# Altium integrated library D-SUB-Filter Bent 90.IntLib: 16 symbols
Pins are listed as number, name and electrical type; pins without a type are passive.

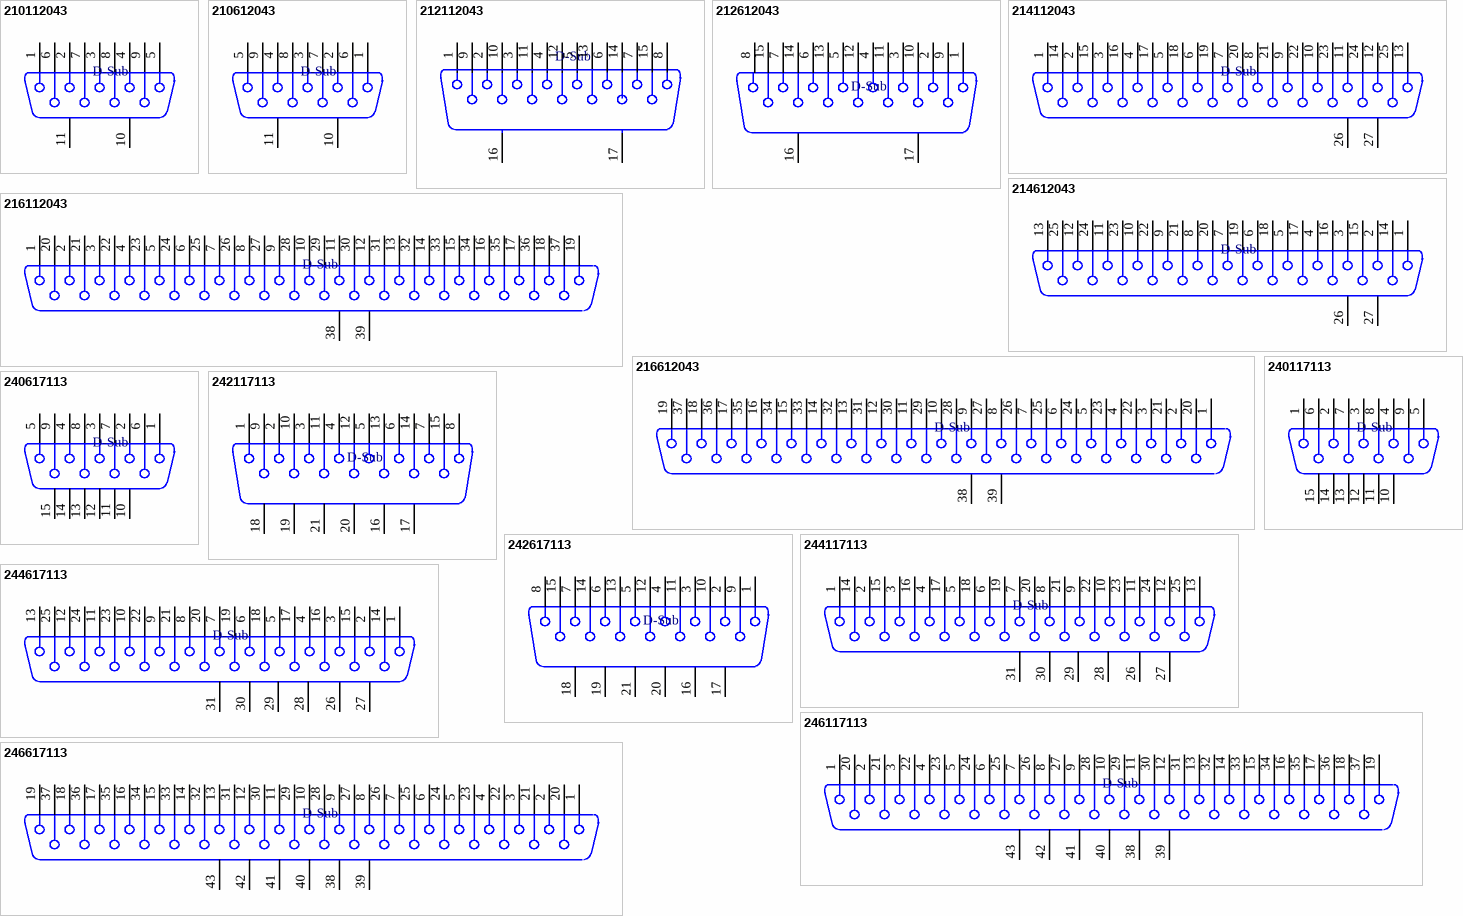
[diagram p0: symbols 210112043 to 246617113]

## 210112043
designator D-Sub
D-SUB-Filter Connectors WE-DS, Bent 90°,TH; PartNumber: 210112043; PackageReference: WE-DS, 210112043; ComponentLink1Description: Manufacturer URL; ComponentLink1URL: http://www.we-online.com; ComponentLink2Description: Datasheet; ComponentLink2URL: http://katalog.we-online.de/kataloge/eisos/index.php?language=en&pf=Filter_abgewinkelt
footprint WE-DS, 210112043 (D-SUB- 9P, MALE, RT ANGLE, TH)
pins: 1, 2, 3, 4, 5, 6, 7, 8, 9, 10 MH1, 11 MH2

## 210612043
designator D-Sub
D-SUB-Filter Connectors WE-DS, Bent 90°,TH; PartNumber: 210612043; PackageReference: WE-DS, 210612043; ComponentLink1Description: Manufacturer URL; ComponentLink1URL: http://www.we-online.com; ComponentLink2Description: Datasheet; ComponentLink2URL: http://katalog.we-online.de/kataloge/eisos/index.php?language=en&pf=Filter_abgewinkelt
footprint WE-DS, 210612043 (D-SUB- 9P, FEMALE, RT ANGLE, TH)
pins: 1, 2, 3, 4, 5, 6, 7, 8, 9, 10 MH1, 11 MH2

## 212112043
designator D-Sub
D-SUB-Filter Connectors WE-DS, Bent 90°,TH; PartNumber: 212112043; PackageReference: WE-DS, 212112043; ComponentLink1Description: Manufacturer URL; ComponentLink1URL: http://www.we-online.com; ComponentLink2Description: Datasheet; ComponentLink2URL: http://katalog.we-online.de/kataloge/eisos/index.php?language=en&pf=Filter_abgewinkelt
footprint WE-DS, 212112043 (D-SUB- 15P, MALE, RT ANGLE, TH)
pins: 1, 2, 3, 4, 5, 6, 7, 8, 9, 10, 11, 12, 13, 14, 15, 16 MH1, 17 MH2

## 212612043
designator D-Sub
D-SUB-Filter Connectors WE-DS, Bent 90°,TH; PartNumber: 212612043; PackageReference: WE-DS, 212612043; ComponentLink1Description: Manufacturer URL; ComponentLink1URL: http://www.we-online.com; ComponentLink2Description: Datasheet; ComponentLink2URL: http://katalog.we-online.de/kataloge/eisos/index.php?language=en&pf=Filter_abgewinkelt
footprint WE-DS, 212612043 (D-SUB- 15P, FEMALE, RT ANGLE, TH)
pins: 1, 2, 3, 4, 5, 6, 7, 8, 9, 10, 11, 12, 13, 14, 15, 16 MH1, 17 MH2

## 214112043
designator D-Sub
D-SUB-Filter Connectors WE-DS, Bent 90°,TH; PartNumber: 214112043; PackageReference: WE-DS, 214112043; ComponentLink1Description: Manufacturer URL; ComponentLink1URL: http://www.we-online.com; ComponentLink2Description: Datasheet; ComponentLink2URL: http://katalog.we-online.de/kataloge/eisos/index.php?language=en&pf=Filter_abgewinkelt
footprint WE-DS, 214112043 (D-SUB- 25P, MALE, RT ANGLE, TH)
pins: 1, 2, 3, 4, 5, 6, 7, 8, 9, 10, 11, 12, 13, 14, 15, 16, 17, 18, 19, 20, 21, 22, 23, 24, 25, 26 MH1, 27 MH2

## 214612043
designator D-Sub
D-SUB-Filter Connectors WE-DS, Bent 90°,TH; PartNumber: 214612043; PackageReference: WE-DS, 214612043; ComponentLink1Description: Manufacturer URL; ComponentLink1URL: http://www.we-online.com; ComponentLink2Description: Datasheet; ComponentLink2URL: http://katalog.we-online.de/kataloge/eisos/index.php?language=en&pf=Filter_abgewinkelt
footprint WE-DS, 214612043 (D-SUB- 25P, FEMALE, RT ANGLE, TH)
pins: 1, 2, 3, 4, 5, 6, 7, 8, 9, 10, 11, 12, 13, 14, 15, 16, 17, 18, 19, 20, 21, 22, 23, 24, 25, 26 MH1, 27 MH2

## 216112043
designator D-Sub
D-SUB-Filter Connectors WE-DS, Bent 90°,TH; PartNumber: 216112043; PackageReference: WE-DS, 216112043; ComponentLink1Description: Manufacturer URL; ComponentLink1URL: http://www.we-online.com; ComponentLink2Description: Datasheet; ComponentLink2URL: http://katalog.we-online.de/kataloge/eisos/index.php?language=en&pf=Filter_abgewinkelt
footprint WE-DS, 216112043 (D-SUB- 37P, MALE, RT ANGLE, TH)
pins: 1, 2, 3, 4, 5, 6, 7, 8, 9, 10, 11, 12, 13, 14, 15, 16, 17, 18, 19, 20, 21, 22, 23, 24, 25, 26, 27, 28, 29, 30, 31, 32, 33, 34, 35, 36, 37, 38 MH1, 39 MH2

## 216612043
designator D-Sub
D-SUB-Filter Connectors WE-DS, Bent 90°,TH; PartNumber: 216612043; PackageReference: WE-DS, 216612043; ComponentLink1Description: Manufacturer URL; ComponentLink1URL: http://www.we-online.com; ComponentLink2Description: Datasheet; ComponentLink2URL: http://katalog.we-online.de/kataloge/eisos/index.php?language=en&pf=Filter_abgewinkelt
footprint WE-DS, 216612043 (D-SUB- 37P, FEMALE, RT ANGLE, TH)
pins: 1, 2, 3, 4, 5, 6, 7, 8, 9, 10, 11, 12, 13, 14, 15, 16, 17, 18, 19, 20, 21, 22, 23, 24, 25, 26, 27, 28, 29, 30, 31, 32, 33, 34, 35, 36, 37, 38 MH1, 39 MH2

## 240117113
designator D-Sub
D-SUB-Filter Connectors WE-DS, Bent 90°,SMT; PartNumber: 240117113; PackageReference: WE-DS, 240117113; ComponentLink1Description: Manufacturer URL; ComponentLink1URL: http://www.we-online.com; ComponentLink2Description: Datasheet; ComponentLink2URL: http://katalog.we-online.de/kataloge/eisos/index.php?language=en&pf=Filter_SMD
footprint WE-DS, 240117113 (D-SUB- 9P, MALE, RT ANGLE, SMT)
pins: 1, 2, 3, 4, 5, 6, 7, 8, 9, 10 MH1, 11 MH2, 12 MH3, 13 MH4, 14 MH5, 15 MH6

## 240617113
designator D-Sub
D-SUB-Filter Connectors WE-DS, Bent 90°,SMT; PartNumber: 240617113; PackageReference: WE-DS, 240617113; ComponentLink1Description: Manufacturer URL; ComponentLink1URL: http://www.we-online.com; ComponentLink2Description: Datasheet; ComponentLink2URL: http://katalog.we-online.de/kataloge/eisos/index.php?language=en&pf=Filter_SMD
footprint WE-DS, 240617113 (D-SUB- 9P, FEMALE, RT ANGLE, SMT)
pins: 1, 2, 3, 4, 5, 6, 7, 8, 9, 10 MH1, 11 MH2, 12 MH3, 13 MH4, 14 MH5, 15 MH6

## 242117113
designator D-Sub
D-SUB-Filter Connectors WE-DS, Bent 90°,SMT; PartNumber: 242117113; PackageReference: WE-DS, 242117113; ComponentLink1Description: Manufacturer URL; ComponentLink1URL: http://www.we-online.com; ComponentLink2Description: Datasheet; ComponentLink2URL: http://katalog.we-online.de/kataloge/eisos/index.php?language=en&pf=Filter_SMD
footprint WE-DS, 242117113 (D-SUB- 15P, MALE, RT ANGLE, SMT)
pins: 1, 2, 3, 4, 5, 6, 7, 8, 9, 10, 11, 12, 13, 14, 15, 16 MH1, 17 MH2, 18 MH3, 19 MH4, 20 MH5, 21 MH6

## 242617113
designator D-Sub
D-SUB-Filter Connectors WE-DS, Bent 90°,SMT; PartNumber: 242617113; PackageReference: WE-DS, 242617113; ComponentLink1Description: Manufacturer URL; ComponentLink1URL: http://www.we-online.com; ComponentLink2Description: Datasheet; ComponentLink2URL: http://katalog.we-online.de/kataloge/eisos/index.php?language=en&pf=Filter_SMD
footprint WE-DS, 242617113 (D-SUB- 15P, FEMALE, RT ANGLE, SMT)
pins: 1, 2, 3, 4, 5, 6, 7, 8, 9, 10, 11, 12, 13, 14, 15, 16 MH1, 17 MH2, 18 MH3, 19 MH4, 20 MH5, 21 MH6

## 244117113
designator D-Sub
D-SUB-Filter Connectors WE-DS, Bent 90°,SMT; PartNumber: 244117113; PackageReference: WE-DS, 244117113; ComponentLink1Description: Manufacturer URL; ComponentLink1URL: http://www.we-online.com; ComponentLink2Description: Datasheet; ComponentLink2URL: http://katalog.we-online.de/kataloge/eisos/index.php?language=en&pf=Filter_SMD
footprint WE-DS, 244117113 (D-SUB- 25P, MALE, RT ANGLE, SMT)
pins: 1, 2, 3, 4, 5, 6, 7, 8, 9, 10, 11, 12, 13, 14, 15, 16, 17, 18, 19, 20, 21, 22, 23, 24, 25, 26 MH1, 27 MH2, 28 MH3, 29 MH4, 30 MH5, 31 MH5

## 244617113
designator D-Sub
D-SUB-Filter Connectors WE-DS, Bent 90°,SMT; PartNumber: 244617113; PackageReference: WE-DS, 244617113; ComponentLink1Description: Manufacturer URL; ComponentLink1URL: http://www.we-online.com; ComponentLink2Description: Datasheet; ComponentLink2URL: http://katalog.we-online.de/kataloge/eisos/index.php?language=en&pf=Filter_SMD
footprint WE-DS, 244617113 (D-SUB- 25P, FEMALE, RT ANGLE, SMT)
pins: 1, 2, 3, 4, 5, 6, 7, 8, 9, 10, 11, 12, 13, 14, 15, 16, 17, 18, 19, 20, 21, 22, 23, 24, 25, 26 MH1, 27 MH2, 28 MH3, 29 MH4, 30 MH5, 31 MH5

## 246117113
designator D-Sub
D-SUB-Filter Connectors WE-DS, Bent 90°,SMT; PartNumber: 246117113; PackageReference: WE-DS, 246117113; ComponentLink1Description: Manufacturer URL; ComponentLink1URL: http://www.we-online.com; ComponentLink2Description: Datasheet; ComponentLink2URL: http://katalog.we-online.de/kataloge/eisos/index.php?language=en&pf=Filter_SMD
footprint WE-DS, 246117113 (D-SUB- 37P, MALE, RT ANGLE, SMT)
pins: 1, 2, 3, 4, 5, 6, 7, 8, 9, 10, 11, 12, 13, 14, 15, 16, 17, 18, 19, 20, 21, 22, 23, 24, 25, 26, 27, 28, 29, 30, 31, 32, 33, 34, 35, 36, 37, 38 MH1, 39 MH2, 40 MH3, 41 MH4, 42 MH5, 43 MH5

## 246617113
designator D-Sub
D-SUB-Filter Connectors WE-DS, Bent 90°,SMT; PartNumber: 246617113; PackageReference: WE-DS, 246617113; ComponentLink1Description: Manufacturer URL; ComponentLink1URL: http://www.we-online.com; ComponentLink2Description: Datasheet; ComponentLink2URL: http://katalog.we-online.de/kataloge/eisos/index.php?language=en&pf=Filter_SMD
footprint WE-DS, 246617113 (D-SUB- 37P, FEMALE, RT ANGLE, SMT)
pins: 1, 2, 3, 4, 5, 6, 7, 8, 9, 10, 11, 12, 13, 14, 15, 16, 17, 18, 19, 20, 21, 22, 23, 24, 25, 26, 27, 28, 29, 30, 31, 32, 33, 34, 35, 36, 37, 38 MH1, 39 MH2, 40 MH3, 41 MH4, 42 MH5, 43 MH5